# Altium footprint library LTA1VS16C.PcbLib: 1 footprints
Each footprint in its own frame and in the unit in brackets; x right, y up, seen from the top. Pads: shape width x height; smd on the part's side, far side on the other; paste and mask are expansions set on the pad; w line width, h text height; cw(c..) or ccw(c..) is an arc to the next point about the centre after c.
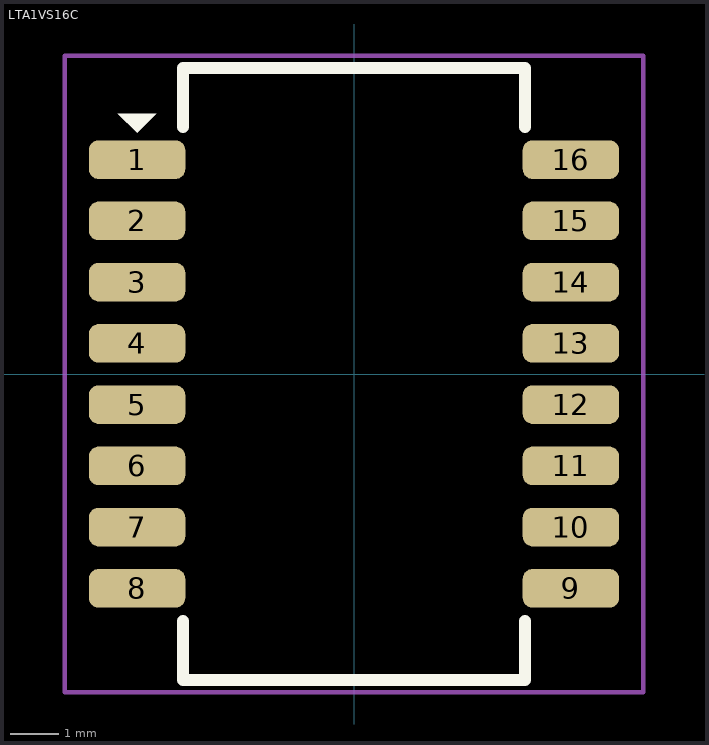
[diagram p0: the footprint, top view; thin cyan lines are the x and y axes]

## LTA1VS16C [mm]
pads (16):
  rrect50% 2x0.8 smd: 1(-4.5,4.445) 2(-4.5,3.175) 3(-4.5,1.905) 4(-4.5,0.635) 5(-4.5,-0.635) 6(-4.5,-1.905) 7(-4.5,-3.175) 8(-4.5,-4.445) 9(4.5,-4.445) 10(4.5,-3.175) 11(4.5,-1.905) 12(4.5,-0.635) 13(4.5,0.635) 14(4.5,1.905) 15(4.5,3.175) 16(4.5,4.445)
Top Overlay:
  region: -4.9,5.4 -4.1,5.4 -4.5,5
  lines w0.25: -3.55,-5.125 -3.55,-6.35 3.55,-6.35 3.55,-5.125 ; -3.55,5.125 -3.55,6.35 3.55,6.35 3.55,5.125
Top Courtyard:
  lines w0.1: -6,-6.6 6,-6.6 6,6.6 -6,6.6 -6,-6.6
3D body "H1102NL--3DModel-STEP-269445.STEP": height 5.97, standoff 0, extent -4.699,-6.35 4.699,6.35